# Altium footprint library PcbLib1.PcbLib: 11 footprints
Each footprint in its own frame and in the unit in brackets; x right, y up, seen from the top. Pads: shape width x height; smd on the part's side, far side on the other; paste and mask are expansions set on the pad; w line width, h text height; cw(c..) or ccw(c..) is an arc to the next point about the centre after c.
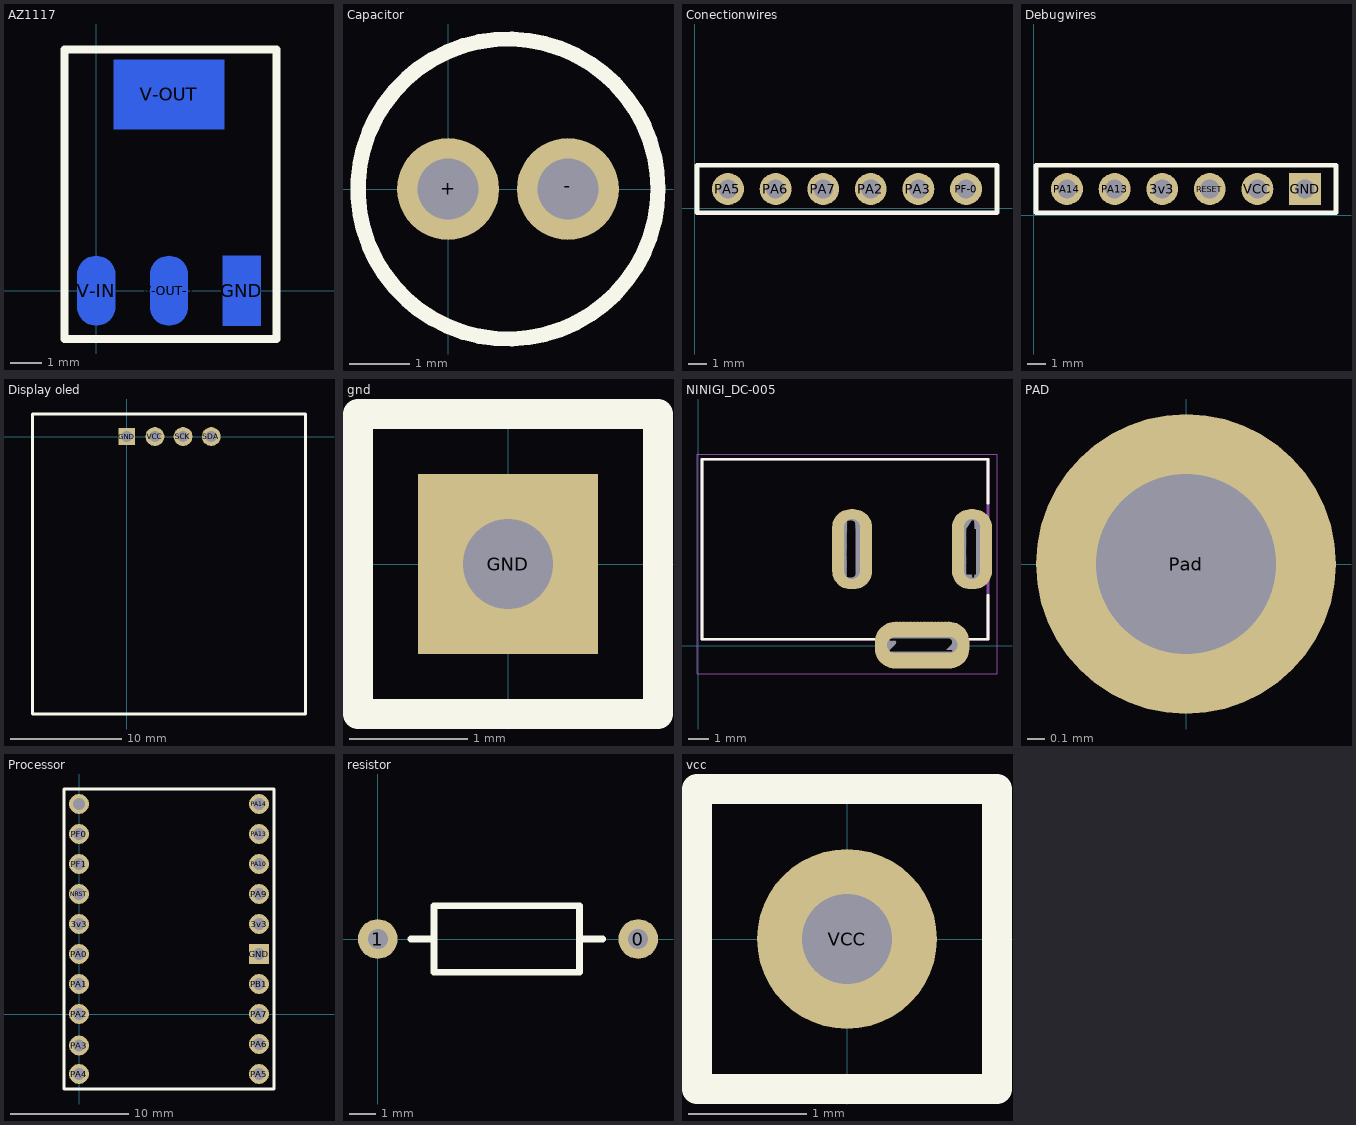
[diagram p0: the footprints below, top view; thin cyan lines are the x and y axes]

## AZ1117 [mm]
pads (4):
  rect 1.2x2.2 smd far side: GND(4.6,0)
  oval 1.2x2.2 smd far side: V-IN(0,0) V-OUT-1(2.3,0)
  rect 3.5x2.2 smd far side: V-OUT(2.3,6.2)
Top Overlay:
  lines w0.254: -1,-1.524 5.7,-1.524 5.7,5.8 5.7,7.61 5.69,7.62 -1,7.62 -1,-1.524

## Capacitor [mm]
pads (2):
  round 1.7 hole 1.016: +(0,0) -(2,0)
Top Overlay:
  circle w0.254: c1,0 r2.502

## Conectionwires [mm]
pads (6):
  round 1.7 hole 1.02: PA2(9.398,1.016) PA3(11.938,1.016) PA5(1.778,1.016) PA6(4.318,1.016) PA7(6.858,1.016) PF-0(14.478,1.016)
Top Overlay:
  lines w0.254: 15.113,-0.254 16.129,-0.254 16.129,2.286 7.62,2.286 0.127,2.286 0.127,-0.254 15.24,-0.254

## Debugwires [mm]
pads (6):
  round 1.7 hole 1.02: 3v3(6.858,1.397) PA13(4.318,1.397) PA14(1.778,1.397) RESET(9.398,1.397) VCC(11.938,1.397)
  rect 1.7x1.7 hole 1.02: GND(14.478,1.397)
Top Overlay:
  lines w0.254: 16.129,1.905 16.129,2.667 5.207,2.667 0.127,2.667 0.127,0.127 16.129,0.127 16.129,2.159

## Display oled [mm] "24.7x27"
pads (4):
  rect 1.524x1.524 hole 1.02: GND(0,0)
  round 1.7 hole 1.02: SCK(5.08,0) SDA(7.62,0) VCC(2.54,0)
Top Overlay:
  lines w0.254: -8.509,-25.019 15.875,-25.019 16.129,-25.019 16.129,2.032 3.81,2.032 -8.509,2.032 -8.509,-25.019

## gnd [mil]
pads (1):
  rect 60x60 hole 30: GND(0,0)
Top Overlay:
  lines w10: -50,-50 -50,50 50,50 50,-50 -50,-50

## NINIGI_DC-005 [mm]
pads (173):
  oval 2x2.35 hole 0.8: 2(9.83,0.025) 2(9.902,0.025) 2(9.974,0.025) 2(10.046,0.025) 2(10.109,0.025) 2(10.181,0.025) 2(10.253,0.025) 2(10.325,0.025) 2(10.389,0.025) 2(10.46,0.025) 2(10.532,0.025) 2(10.604,0.025) 2(10.668,0.025) 2(10.74,0.025) 2(10.812,0.025) 2(10.884,0.025) 2(10.947,0.025) 2(11.019,0.025) 2(11.091,0.025) 2(11.163,0.025) 2(11.227,0.025) 2(11.299,0.025) 2(11.371,0.025) 2(11.443,0.025) 2(11.506,0.025) 2(11.578,0.025) 2(11.65,0.025) 2(11.722,0.025) 2(11.786,0.025) 2(11.857,0.025) 2(11.929,0.025) 2(12.001,0.025) 2(12.065,0.025) 2(12.137,0.025) 2(12.209,0.025) 2(12.281,0.025) 2(12.344,0.025) 2(12.416,0.025) 2(12.492,0.025) 2(12.518,0.025) 2(12.543,0.025)
  oval 2x1.8 hole 0.8: 3(7.682,3.729) 3(7.682,3.75) 3(7.682,3.818) 3(7.682,3.818) 3(7.682,3.886) 3(7.682,3.886) 3(7.682,3.954) 3(7.682,3.954) 3(7.682,4.022) 3(7.682,4.022) 3(7.682,4.09) 3(7.682,4.09) 3(7.682,4.158) 3(7.682,4.158) 3(7.682,4.226) 3(7.682,4.226) 3(7.682,4.294) 3(7.682,4.362) 3(7.682,4.375) 3(7.682,4.443) 3(7.682,4.511) 3(7.682,4.511) 3(7.682,4.579) 3(7.682,4.579) 3(7.682,4.647) 3(7.682,4.647) 3(7.682,4.69) 3(7.682,4.715) 3(7.682,4.715) 3(7.682,4.758) 3(7.682,4.783) 3(7.682,4.783) 3(7.682,4.826) 3(7.682,4.826) 3(7.682,4.851) 3(7.682,4.851) 3(7.682,4.894) 3(7.682,4.894) 3(7.682,4.919) 3(7.682,4.962) 3(7.682,4.962) 3(7.682,4.987) 3(7.682,5.03) 3(7.682,5.03) 3(7.682,5.098) 3(7.682,5.098) 3(7.682,5.166) 3(7.682,5.166) 3(7.682,5.234) 3(7.682,5.302) 3(7.682,5.315) 3(7.682,5.383) 3(7.682,5.451) 3(7.682,5.451) 3(7.682,5.519) 3(7.682,5.519) 3(7.682,5.587) 3(7.682,5.587) 3(7.682,5.655) 3(7.682,5.655) 3(7.682,5.723) 3(7.682,5.723) 3(7.682,5.791) 3(7.682,5.791) 3(7.682,5.859) 3(7.682,5.927) 4(13.676,3.729) 4(13.676,3.75) 4(13.676,3.818) 4(13.676,3.818) 4(13.676,3.886) 4(13.676,3.886) 4(13.676,3.954) 4(13.676,3.954) 4(13.676,4.022) 4(13.676,4.022) 4(13.676,4.09) 4(13.676,4.09) 4(13.676,4.158) 4(13.676,4.158) 4(13.676,4.226) 4(13.676,4.226) 4(13.676,4.294) 4(13.676,4.362) 4(13.676,4.375) 4(13.676,4.443) 4(13.676,4.511) 4(13.676,4.511) 4(13.676,4.579) 4(13.676,4.579) 4(13.676,4.647) 4(13.676,4.647) 4(13.676,4.69) 4(13.676,4.715) 4(13.676,4.715) 4(13.676,4.758) 4(13.676,4.783) 4(13.676,4.783) 4(13.676,4.826) 4(13.676,4.826) 4(13.676,4.851) 4(13.676,4.851) 4(13.676,4.894) 4(13.676,4.894) 4(13.676,4.919) 4(13.676,4.962) 4(13.676,4.962) 4(13.676,4.987) 4(13.676,5.03) 4(13.676,5.03) 4(13.676,5.098) 4(13.676,5.098) 4(13.676,5.166) 4(13.676,5.166) 4(13.676,5.234) 4(13.676,5.302) 4(13.676,5.315) 4(13.676,5.383) 4(13.676,5.451) 4(13.676,5.451) 4(13.676,5.519) 4(13.676,5.519) 4(13.676,5.587) 4(13.676,5.587) 4(13.676,5.655) 4(13.676,5.655) 4(13.676,5.723) 4(13.676,5.723) 4(13.676,5.791) 4(13.676,5.791) 4(13.676,5.859) 4(13.676,5.927)
Top Overlay:
  lines w0.127: 8.776,0.326 0.176,0.326 0.176,9.326 14.476,9.326 14.476,7.126 ; 13.576,0.326 14.476,0.326 14.476,2.526
Mechanical 13:
  lines w0.127: 0.176,0.326 14.476,0.326 14.476,9.326 0.176,9.326 0.176,0.326
Mechanical 15:
  lines w0.05: -0.074,-1.404 14.926,-1.404 14.926,9.576 -0.074,9.576 -0.074,-1.404

## PAD [mm] "A simple pad to connections"
pads (1):
  round 1.7 hole 1.02: Pad(0,0)

## Processor [mm]
pads (20):
  round 1.7 hole 1.02: 3v3(0,7.62) 3v3(15.24,7.62) BOOT0(0,17.78) NRST(0,10.16) PA0(0,5.08) PA1(0,2.54) PA2(0,0) PA3(0,-2.667) PA4(0,-5.08) PA5(15.24,-5.08) PA6(15.24,-2.54) PA7(15.24,0) PA9(15.24,10.16) PA10(15.24,12.7) PA13(15.24,15.24) PA14(15.24,17.78) PB1(15.24,2.54) PF0(0,15.24) PF1(0,12.7)
  rect 1.7x1.7 hole 1.02: GND(15.24,5.08)
Top Overlay:
  lines w0.254: -1.27,-6.35 -1.27,-1.27 -1.27,19.05 16.51,19.05 16.51,-1.27 16.51,-6.35 12.065,-6.35 3.175,-6.35 -1.27,-6.35

## resistor [mil]
pads (2):
  round 60 hole 30: 0(393.7,0) 1(0,0)
Top Overlay:
  lines w10: 50,0 85,0 ; 305,0 340,0 ; 85,0 85,50 140,50 250,50 305,50 305,-50 250,-50 140,-50 85,-50 85,0

## vcc [mil]
pads (1):
  round 60 hole 30: VCC(0,0)
Top Overlay:
  lines w10: -50,-50 -50,50 50,50 50,-50 -50,-50